# Altium schematic symbol library Tiristors_Diodes.SchLib: 4 symbols
Pins are listed as number, name and electrical type; pins without a type are passive.

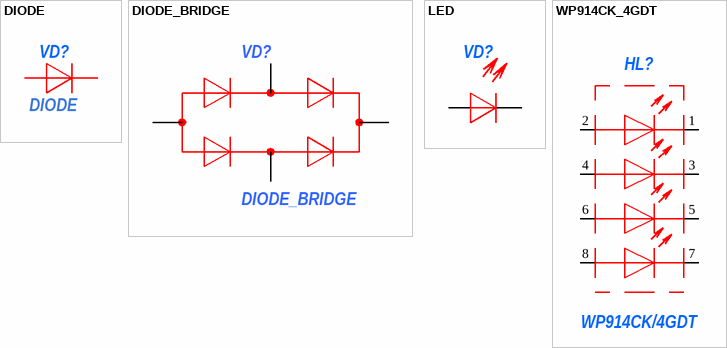
[diagram p0: symbols DIODE to WP914CK_4GDT]

## DIODE
designator VD?
Диод; ManufacturerPartNumber: 1N4007; ComponentLink1Description: *; ComponentLink1URL: *; ComponentLink2Description: *; ComponentLink2URL: *; Manufacturer: *; Power\Voltage: *; Rem: *; TKE: *; Tolerance: *; TU/GOST: *; Value: *; Корпус: *; Примечание: *; Author: *; Type: *
pins: 1 K, 2 A

## DIODE_BRIDGE
designator VD?
Диодный мост, 1А, 1000В; ManufacturerPartNumber: DF10; ComponentLink1Description: *; ComponentLink1URL: *; ComponentLink2Description: *; ComponentLink2URL: *; Power/Voltage: *; Rem: *; TKE: *; Tolerance: *; TU/GOST: *; Value: *; Корпус: *; Примечание: *; Manufacturer: *; Author: *; Type: *
pins: 1, 2, 3, 4

## LED
designator VD?  (value not drawn)
Светодиод круглый; ManufacturerPartNumber: L132XHD; ComponentLink1Description: *; ComponentLink1URL: *; ComponentLink2Description: *; ComponentLink2URL: *; Manufacturer: *; Power\Voltage: *; Rem: *; TKE: *; Tolerance: *; TU/GOST: *; Value: *; Корпус: *; Примечание: *; Author: *
pins: 1 K, 2 A

## WP914CK_4GDT
designator HL?, comment WP914CK/4GDT
Green LED; MANUFACTURER: Broadcom; GROUP: СВЕТОДИОД; PROCESS: SMD; INFO: RoHS; DATASHEET_LINK: https://ru.mouser.com/datasheet/2/216/WP914CK-4GDT-50948.pdf; Manufacturer Part Number: WP914CK/4GDT; PROCESS_NSFT: SMD
footprint WP914CK/4GDT
pins: 1, 2, 3, 4, 5, 6, 7, 8